# Altium footprint library BOTS.PcbLib: 5 footprints
Each footprint in its own frame and in the unit in brackets; x right, y up, seen from the top. Pads: shape width x height; smd on the part's side, far side on the other; paste and mask are expansions set on the pad; w line width, h text height; cw(c..) or ccw(c..) is an arc to the next point about the centre after c.
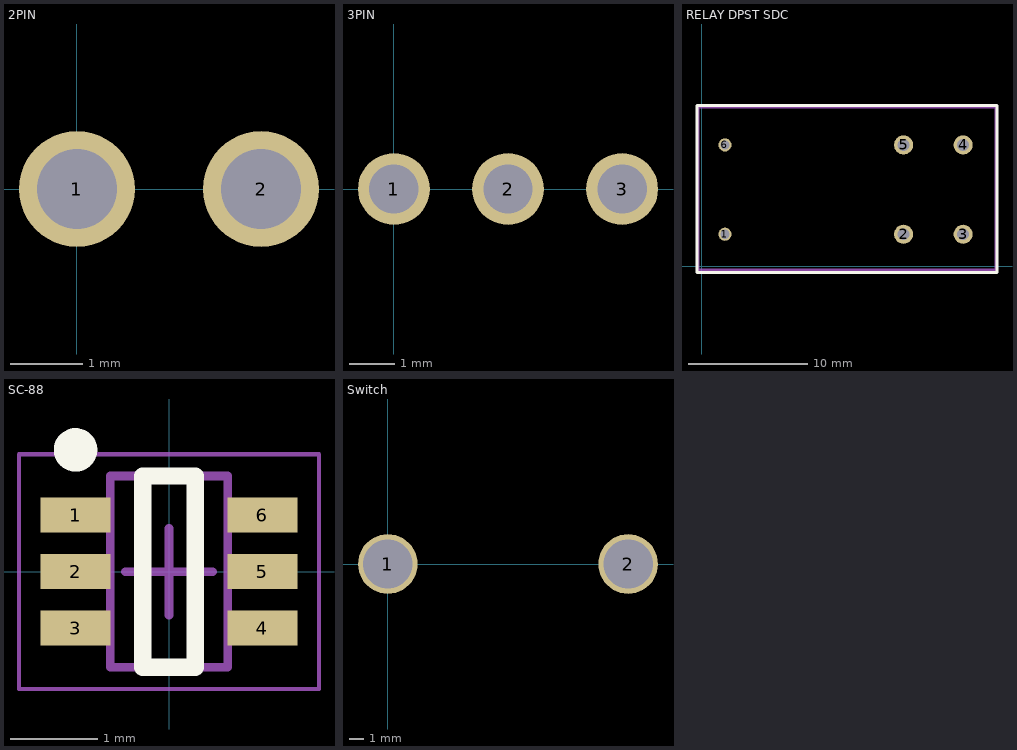
[diagram p0: the footprints below, top view; thin cyan lines are the x and y axes]

## 2PIN [mm]
pads (2):
  round 1.6 hole 1.1 unplated: 1(0,0) 2(2.54,0)
3D body "c-103638-1-s-3d.stp": height 14, standoff -2.89, extent -2.405,-2.881 5.085,4.104

## 3PIN [mm]
pads (3):
  round 1.6 hole 1.1 unplated: 1(0,0) 2(2.54,0) 3(5.08,0)
3D body "c-103638-2-s-3d.stp": height 14, standoff -2.89, extent -2.415,-2.931 7.615,4.054

## RELAY DPST SDC [mm]
pads (6):
  round 1.1 hole 0.762: 1(1.95,2.7) 6(1.95,10.2)
  round 1.6 hole 1: 2(16.95,2.7) 3(21.95,2.7) 4(21.95,10.2) 5(16.95,10.2)
Top Overlay:
  lines w0.254: -0.4,-0.5 24.8,-0.5 24.8,13.5 -0.4,13.5 -0.4,-0.5
Mechanical 15:
  lines w0.254: -0.3,-0.3 -0.3,13.4 24.7,13.4 24.7,-0.3 -0.3,-0.3
3D body: height 0.25, standoff 0, extent 0,0 24.4,12.9
3D body "1891796_osa-ss-224dm3_000.stp": height 24.51, standoff -4.29, extent 0,0 24.4,12.9

## SC-88 [mm] "SOT23, 6-Leads, Body 2.00x2.10mm, Pitch 0.65mm, IPC Medium Density"
height 1.1
pads (6):
  rect 0.8x0.4 smd: 1(-1.075,0.65) 2(-1.075,0) 3(-1.075,-0.65) 4(1.075,-0.65) 5(1.075,0) 6(1.075,0.65)
Top Overlay:
  circle w0.25: c-1.075,1.4 r0.125
  lines w0.2: -0.3,-1.1 -0.3,1.1 0.3,1.1 0.3,-1.1 -0.3,-1.1
Mechanical 13:
  lines w0.1: -0.675,-1.1 0.675,-1.1 0.675,1.1 -0.675,1.1 -0.675,-1.1
Mechanical 15:
  lines w0.05: -1.725,-1.35 1.725,-1.35 1.725,1.35 -1.725,1.35 -1.725,-1.35
  lines w0.1: -0.5,0 0.5,0 ; 0,-0.5 0,0.5
3D body "SOT65P210X110-6N.step": height 1.1, standoff 0, extent -1.1,-1.1 1.1,1.1

## Switch [mm]
pads (2):
  round 4 hole 3.3 unplated: 1(0,0) 2(16.1,0)
3D body "BOTS.STEP": height 16.5, standoff -3.5, extent -1.85,-3.2 17.95,3.2